# Altium schematic symbol library lib_keystone.SchLib: 1 symbol
Pins are listed as number, name and electrical type; pins without a type are passive.

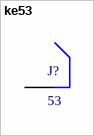
[diagram p0: symbol ke53]

## ke53
designator J?, comment 53
Cylindrical Battery Contacts, Clips, Holders & Springs SMT Battery clip FOR AA; ComponentLink1Description: datasheet; ComponentLink1URL: https://www.mouser.se/datasheet/2/215/3-745929.pdf
footprint ke53
pins: 1